# Altium schematic symbol library IC_Freescale_Semiconductor_MP3V5004DP_eec.SchLib: 1 symbol
Pins are listed as number, name and electrical type; pins without a type are passive.

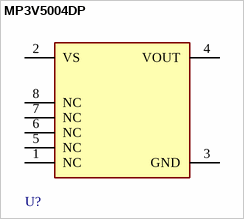
[diagram p0: symbol MP3V5004DP]

## MP3V5004DP
designator U?  (value not drawn)
pins: 1 NC, 2 VS (power), 3 GND (power), 4 VOUT (power), 5 NC, 6 NC, 7 NC, 8 NC